# EAGLE library part IS31SE5111C-ZNLS3 (library Brundage Buisness Card)
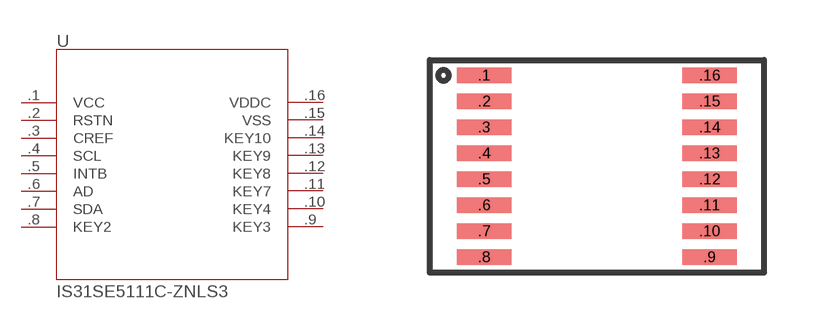
[diagram p2: symbol with the pads of LUMISSIL-TSSOP-16; footprint LUMISSIL-TSSOP-16]

Designator prefix -

## IS31SE5111C-ZNLS3  [LUMISSIL-TSSOP-16]
.1  VCC
.2  RSTN
.3  CREF
.4  SCL
.5  INTB
.6  AD
.7  SDA
.8  KEY2
.9  KEY3
.10  KEY4
.11  KEY7
.12  KEY8
.13  KEY9
.14  KEY10
.15  VSS
.16  VDDC

## Footprint LUMISSIL-TSSOP-16 (pad centres in mm)
smd 1.36 x 0.39: .1 -2.54,1.27; .2 -2.54,0.62; .3 -2.54,-0.03; .4 -2.54,-0.68; .5 -2.54,-1.33; .6 -2.54,-1.98; .7 -2.54,-2.63; .8 -2.54,-3.28; .9 3.1,-3.28; .10 3.1,-2.63; .11 3.1,-1.98; .12 3.1,-1.33; .13 3.1,-0.68; .14 3.1,-0.03; .15 3.1,0.62; .16 3.1,1.27